# Altium footprint library CustomFootprints.PcbLib: 18 footprints (part 2 of 2)
Each footprint in its own frame and in the unit in brackets; x right, y up, seen from the top. Pads: shape width x height; smd on the part's side, far side on the other; paste and mask are expansions set on the pad; w line width, h text height; cw(c..) or ccw(c..) is an arc to the next point about the centre after c.
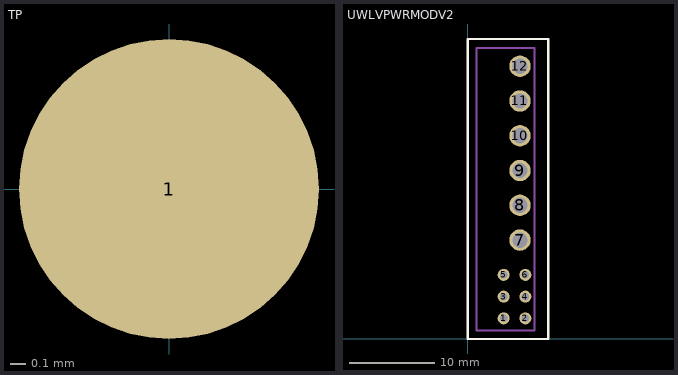
[diagram p1: the footprints below, top view; thin cyan lines are the x and y axes]

## TP [mm] "Test Point"
pads (1):
  round 2 smd paste-10: 1(0,0)

## UWLVPWRMODV2 [mm] "UW Low-voltage Power Module V2"
height 20
pads (12):
  round 1.4 hole 0.9: 1(4.191,2.413) 2(6.731,2.413) 3(4.191,4.953) 4(6.731,4.953) 5(4.191,7.493) 6(6.731,7.493)
  round 2.5 hole 1.8: 7(6.096,11.557) 8(6.096,15.621) 9(6.096,19.685) 10(6.096,23.749) 11(6.096,27.813) 12(6.096,31.877)
Top Overlay:
  lines w0.254: 0,0 9.398,0 9.398,35.052 0,35.052 0,0
Assembly:
  lines w0.254: 1,1 1,34 7.8,34 7.8,1 1,1
  text ".Designator" at 1.9,16.8 h2
3D body: height 17, standoff 1, extent 1,1 3,34
3D body: height 3, standoff 0, extent 3,1 7.8,34